# Altium footprint library BuckBoost-1.PcbLib: 23 footprints (part 1 of 2)
Each footprint in its own frame and in the unit in brackets; x right, y up, seen from the top. Pads: shape width x height; smd on the part's side, far side on the other; paste and mask are expansions set on the pad; w line width, h text height; cw(c..) or ccw(c..) is an arc to the next point about the centre after c.
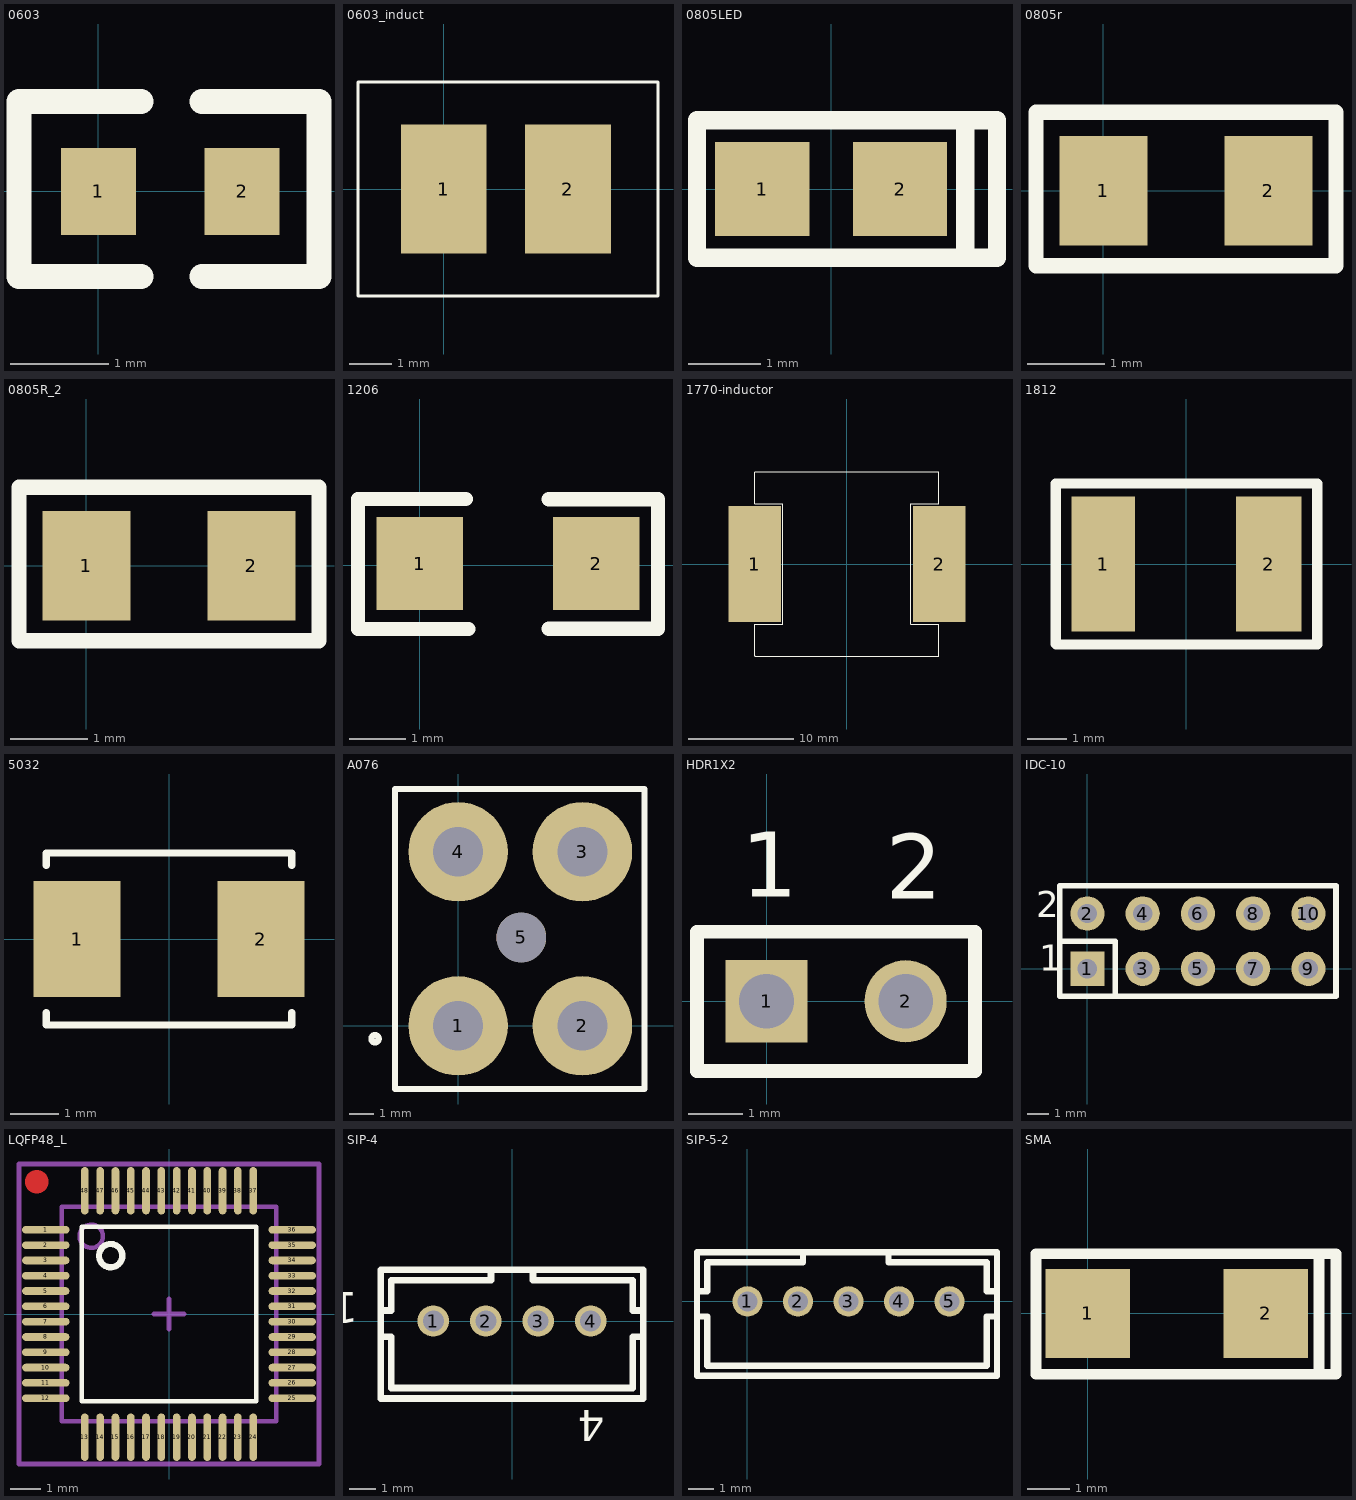
[diagram p0: the footprints below, top view; thin cyan lines are the x and y axes]

## 0603 [mil] "SMD0603"
height 43.31
pads (2):
  rect 30x35 smd: 1(0,0) 2(57.56,0)
Top Overlay:
  lines w10: 17.09,-34 -31.73,-34 -31.73,36 17.09,36 ; 41.5,-34 88.33,-34 88.33,36 41.5,36

## 0603_induct [mm]
height 1.1
pads (2):
  rect 2x3 smd: 1(0,0) 2(2.9,0)
Top Overlay:
  lines w0.067: -2,-2.5 5,-2.5 5,2.5 -2,2.5 -2,-2.5

## 0805LED [mm]
height 1.1
pads (2):
  rect 1.3x1.3 smd: 1(-0.95,0) 2(0.95,0)
Top Overlay:
  lines w0.254: 1.524,0.95 2.225,0.95 ; 2.286,0.95 2.286,-0.95 1.85,-0.95 ; 1.85,-0.95 -1.85,-0.95 -1.85,0.95 1.85,0.95 1.85,-0.95

## 0805r [mil]
height 19.68
pads (2):
  rect 45x56 smd: 1(0,0) 2(84.37,0)
Top Overlay:
  lines w7.87: -34.43,-38.39 -34.43,40 119,40 119,-38.39 -34.43,-38.39
3D body: height 19.68, standoff 0, extent 3.63,-24.61 82.37,24.6

## 0805R_2 [mil]
pads (2):
  rect 45x56 smd: 1(0,0) 2(84.37,0)
Top Overlay:
  lines w7.87: -34.43,-38.39 119,-38.39 119,40 -34.43,40 -34.43,-38.39
3D body: height 19.68, standoff 0, extent 3.63,-24.61 82.37,24.6

## 1206 [mil]
height 250
pads (2):
  rect 60x65 smd: 1(0,1) 2(122.99,1)
Top Overlay:
  lines w10: 32,46 -43,46 -43,-44.58 34,-44.58 ; 90,-44.45 166,-44.45 166,45.85 90,45.85
3D body: height 37.01, standoff 0, extent -1.05,-30.52 124.93,32.48

## 1770-inductor [mm]
pads (2):
  rect 5x11 smd: 1(-8.75,0) 2(8.776,0)
Top Overlay:
  lines w0.067: -8.763,-8.737 ccw(c-8.75,-8.737) -8.75,-8.75 8.75,-8.75 8.75,-5.715 6.096,-5.715 6.096,5.715 8.737,5.715 8.75,5.728 8.75,8.75 -8.75,8.75 ccw(c-8.75,8.737) -8.763,8.737 -8.763,5.715 -6.096,5.715 -6.096,-5.715 -8.763,-5.715 -8.763,-8.737

## 1812 [mm] "Chip ; Body 4.5 x 3.2 mm (LxW typ)"
height 1.35
pads (2):
  rect 1.6x3.4 smd: 1(-2.087,0)
  rect 1.65x3.4 smd: 2(2.087,0)
Top Overlay:
  lines w0.254: -3.29,-2.021 -3.278,-2.032 3.314,-2.032 3.314,2.032 -3.29,2.032 -3.29,-2.021
3D body: height 1.6, standoff 0, extent -2.1,-1.475 2.4,1.725

## 5032 [mm] "5.0mm*3.2mm*1.5mm"
height 1.5
pads (2):
  rect 1.8x2.4 smd: 1(-1.9,0) 2(1.9,0)
Top Overlay:
  lines w0.152: -2.54,-1.524 -2.54,-1.778 2.54,-1.778 2.54,-1.524 ; -2.54,1.524 -2.54,1.778 2.54,1.778 2.54,1.524

## A076 [mm]
height 1.1
pads (5):
  round 4 hole 2: 1(-0.003,0.002) 2(4.997,0.002) 3(4.997,7.002) 4(-0.003,7.002)
  round 2 hole 2: 5(2.537,3.558)
Top Overlay:
  circle w0.254: c-3.345,-0.517 r0.145
  lines w0.254: -2.543,-2.538 -2.543,9.526 7.495,9.526 7.495,-2.538 -2.543,-2.538

## HDR1X2 [mm] "Connector; Header; 2 Position"
height 4.6
pads (2):
  rect 1.5x1.5 hole 1: 1(0,0)
  round 1.5 hole 1: 2(2.54,0)
Top Overlay:
  lines w0.254: -1.27,-1.27 -1.27,1.27 3.81,1.27 3.81,-1.27 -1.27,-1.27
  text "1" at -0.466,1.514 h2.03
  text "2" at 2.177,1.484 h2.03
3D body: height 6.54, standoff -2.46, extent 1.27,-1.27 3.81,1.27
3D body: height 6.54, standoff -2.46, extent -1.27,-1.27 1.27,1.27

## IDC-10 [mil]
height 43.31
pads (10):
  rect 62x62 hole 35: 1(0,0)
  round 62 hole 35: 2(0,100) 3(100,0) 4(100,100) 5(200,0) 6(200,100) 7(300,0) 8(300,100) 9(400,0) 10(400,100)
Top Overlay:
  lines w10: -50,50 50,50 50,-50 ; -50,-50 -50,150 450,150 450,-50 -50,-50
  text "1" at -87.03,-19.15 h80
  text "2" at -93.03,77.85 h80

## LQFP48_L [mm] "Thin QFP, 48-Leads, Body 7x7mm, Pitch 0.5mm, IPC High Density"
height 1.6
pads (48):
  oval 1.55x0.25 smd: 1(-4.025,2.75) 2(-4.025,2.25) 3(-4.025,1.75) 4(-4.025,1.25) 5(-4.025,0.75) 6(-4.025,0.25) 7(-4.025,-0.25) 8(-4.025,-0.75) 9(-4.025,-1.25) 10(-4.025,-1.75) 11(-4.025,-2.25) 12(-4.025,-2.75) 25(4.025,-2.75) 26(4.025,-2.25) 27(4.025,-1.75) 28(4.025,-1.25) 29(4.025,-0.75) 30(4.025,-0.25) 31(4.025,0.25) 32(4.025,0.75) 33(4.025,1.25) 34(4.025,1.75) 35(4.025,2.25) 36(4.025,2.75)
  oval 0.25x1.55 smd: 13(-2.75,-4.025) 14(-2.25,-4.025) 15(-1.75,-4.025) 16(-1.25,-4.025) 17(-0.75,-4.025) 18(-0.25,-4.025) 19(0.25,-4.025) 20(0.75,-4.025) 21(1.25,-4.025) 22(1.75,-4.025) 23(2.25,-4.025) 24(2.75,-4.025) 37(2.75,4.025) 38(2.25,4.025) 39(1.75,4.025) 40(1.25,4.025) 41(0.75,4.025) 42(0.25,4.025) 43(-0.25,4.025) 44(-0.75,4.025) 45(-1.25,4.025) 46(-1.75,4.025) 47(-2.25,4.025) 48(-2.75,4.025)
Top Layer:
  region: -3.943,4.252 -3.937,4.318 -3.943,4.384 -3.96,4.448 -3.988,4.508 -4.026,4.563 -4.073,4.61 -4.127,4.648 -4.188,4.676 -4.252,4.693 -4.318,4.699 -4.384,4.693 -4.448,4.676 -4.508,4.648 -4.563,4.61 -4.61,4.563 -4.648,4.508 -4.676,4.448 -4.693,4.384 -4.699,4.318 -4.693,4.252 -4.676,4.188 -4.648,4.127 -4.61,4.073 -4.563,4.026 -4.508,3.988 -4.448,3.96 -4.384,3.943 -4.318,3.937 -4.252,3.943 -4.188,3.96 -4.127,3.988 -4.073,4.026 -4.026,4.073 -3.988,4.127 -3.96,4.188
Top Overlay:
  circle w0.203: c-1.905,1.905 r0.381
  lines w0.152: -2.85,-2.85 -2.85,2.85 2.85,2.85 2.85,-2.85 -2.85,-2.85
Top Solder:
  region: -4.406,4.818 -4.492,4.795 -4.572,4.758 -4.645,4.707 -4.707,4.645 -4.758,4.572 -4.795,4.492 -4.818,4.406 -4.826,4.318 -4.818,4.23 -4.795,4.144 -4.758,4.064 -4.707,3.991 -4.645,3.929 -4.572,3.878 -4.492,3.841 -4.406,3.818 -4.318,3.81 -4.23,3.818 -4.144,3.841 -4.064,3.878 -3.991,3.929 -3.929,3.991 -3.878,4.064 -3.841,4.144 -3.818,4.23 -3.81,4.318 -3.818,4.406 -3.841,4.492 -3.878,4.572 -3.929,4.645 -3.991,4.707 -4.064,4.758 -4.144,4.795 -4.23,4.818 -4.318,4.826
Mechanical 13:
  circle w0.152: c-2.54,2.54 r0.381
  lines w0.152: -3.5,-3.5 -3.5,3.5 3.5,3.5 3.5,-3.5 -3.5,-3.5
Mechanical 15:
  lines w0.152: -0.5,0 0.5,0 ; 0,-0.5 0,0.5 ; -4.9,-4.9 -4.9,4.9 4.9,4.9 4.9,-4.9 -4.9,-4.9
3D body: height 1.6, standoff 0, extent -3.5,-3.5 3.5,3.5

## SIP-4 [mm]
height 1.6
pads (4):
  round 1.2 hole 0.8: 1(-3,0) 2(-1,0) 3(1,0) 4(3,0)
Top Overlay:
  lines w0.254: -5,-0.6 -4.6,-0.6 -4.6,-2.55 4.6,-2.55 4.6,-0.6 5,-0.6 ; -5,0.4 -4.6,0.4 -4.6,1.55 -0.8,1.55 -0.8,1.95 ; 0.8,1.95 0.8,1.55 4.6,1.55 4.6,0.4 5,0.4 ; -5,-2.95 5,-2.95 5,1.95 -5,1.95 -5,-2.95
  text "4" at 3.531,-2.997 h2.03
  text "1" at -5.867,1.499 h2.03
3D body: height 6, standoff -3, extent -4.966,-2.794 4.934,1.706

## SIP-5-2 [mm]
height 1.1
pads (5):
  round 1.2 hole 0.8: 1(0,0) 2(2,0) 3(4,0) 4(6,0) 5(8,0)
Top Overlay:
  lines w0.254: -2,-0.6 -1.6,-0.6 -1.6,-2.55 9.484,-2.55 9.484,-0.6 9.884,-0.6 ; -2,0.4 -1.6,0.4 -1.6,1.55 2.2,1.55 2.2,1.95 ; 5.586,1.95 5.586,1.55 9.484,1.55 9.484,0.4 9.884,0.4 ; -2,-2.95 -2,1.95 9.884,1.95 9.884,-2.95 -2,-2.95

## SMA [mm]
height 1.1
pads (2):
  rect 2x2.1 smd: 1(0,0) 2(4.2,0)
Top Overlay:
  lines w0.254: 5.46,-1.438 5.46,1.4 ; -1.221,-1.438 5.86,-1.438 5.86,1.406 -1.221,1.406 -1.221,-1.438
3D body: height 2.5, standoff 0.1, extent -0.5,-1.32 4.7,1.28